# EAGLE library part CC1R5-0305SF-E (library FaBo-Supply)
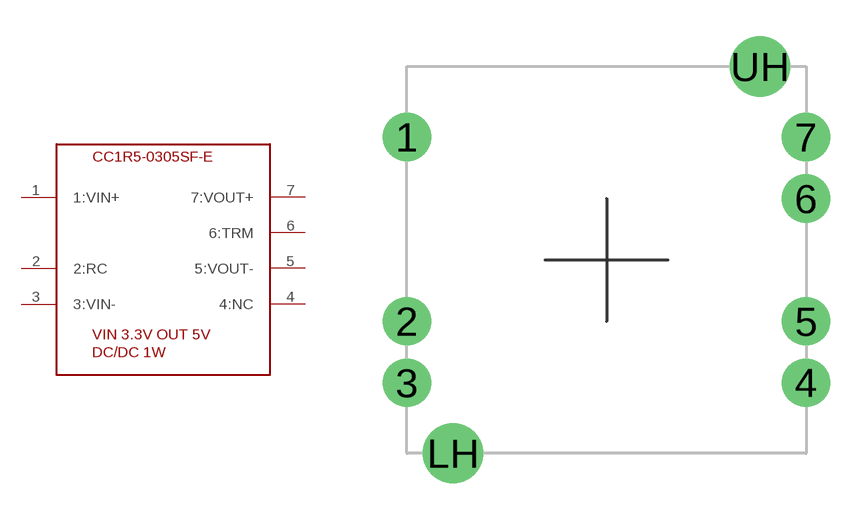
[diagram p17: symbol with the pads of CC1R5-XXXXXF-E; footprint CC1R5-XXXXXF-E]

Designator prefix -

## CC1R5-0305SF-E  [CC1R5-XXXXXF-E]
1  1:VIN+
2  2:RC
3  3:VIN-
4  4:NC  nc
5  5:VOUT-
6  6:TRM
7  7:VOUT+

## Footprint CC1R5-XXXXXF-E (pad centres in mm)
drill 1 pad 2: 1 -8.255,0; 2 -8.255,-7.62; 3 -8.255,-10.16; 4 8.255,-10.16; 5 8.255,-7.62; 6 8.255,-2.54; 7 8.255,0
drill 1.5 pad 2.5: LH -6.35,-13.08; UH 6.35,2.92